# Altium footprint library BASIC Library.PCBLIB: 464 footprints (part 4 of 30)
Each footprint in its own frame and in the unit in brackets; x right, y up, seen from the top. Pads: shape width x height; smd on the part's side, far side on the other; paste and mask are expansions set on the pad; w line width, h text height; cw(c..) or ccw(c..) is an arc to the next point about the centre after c.
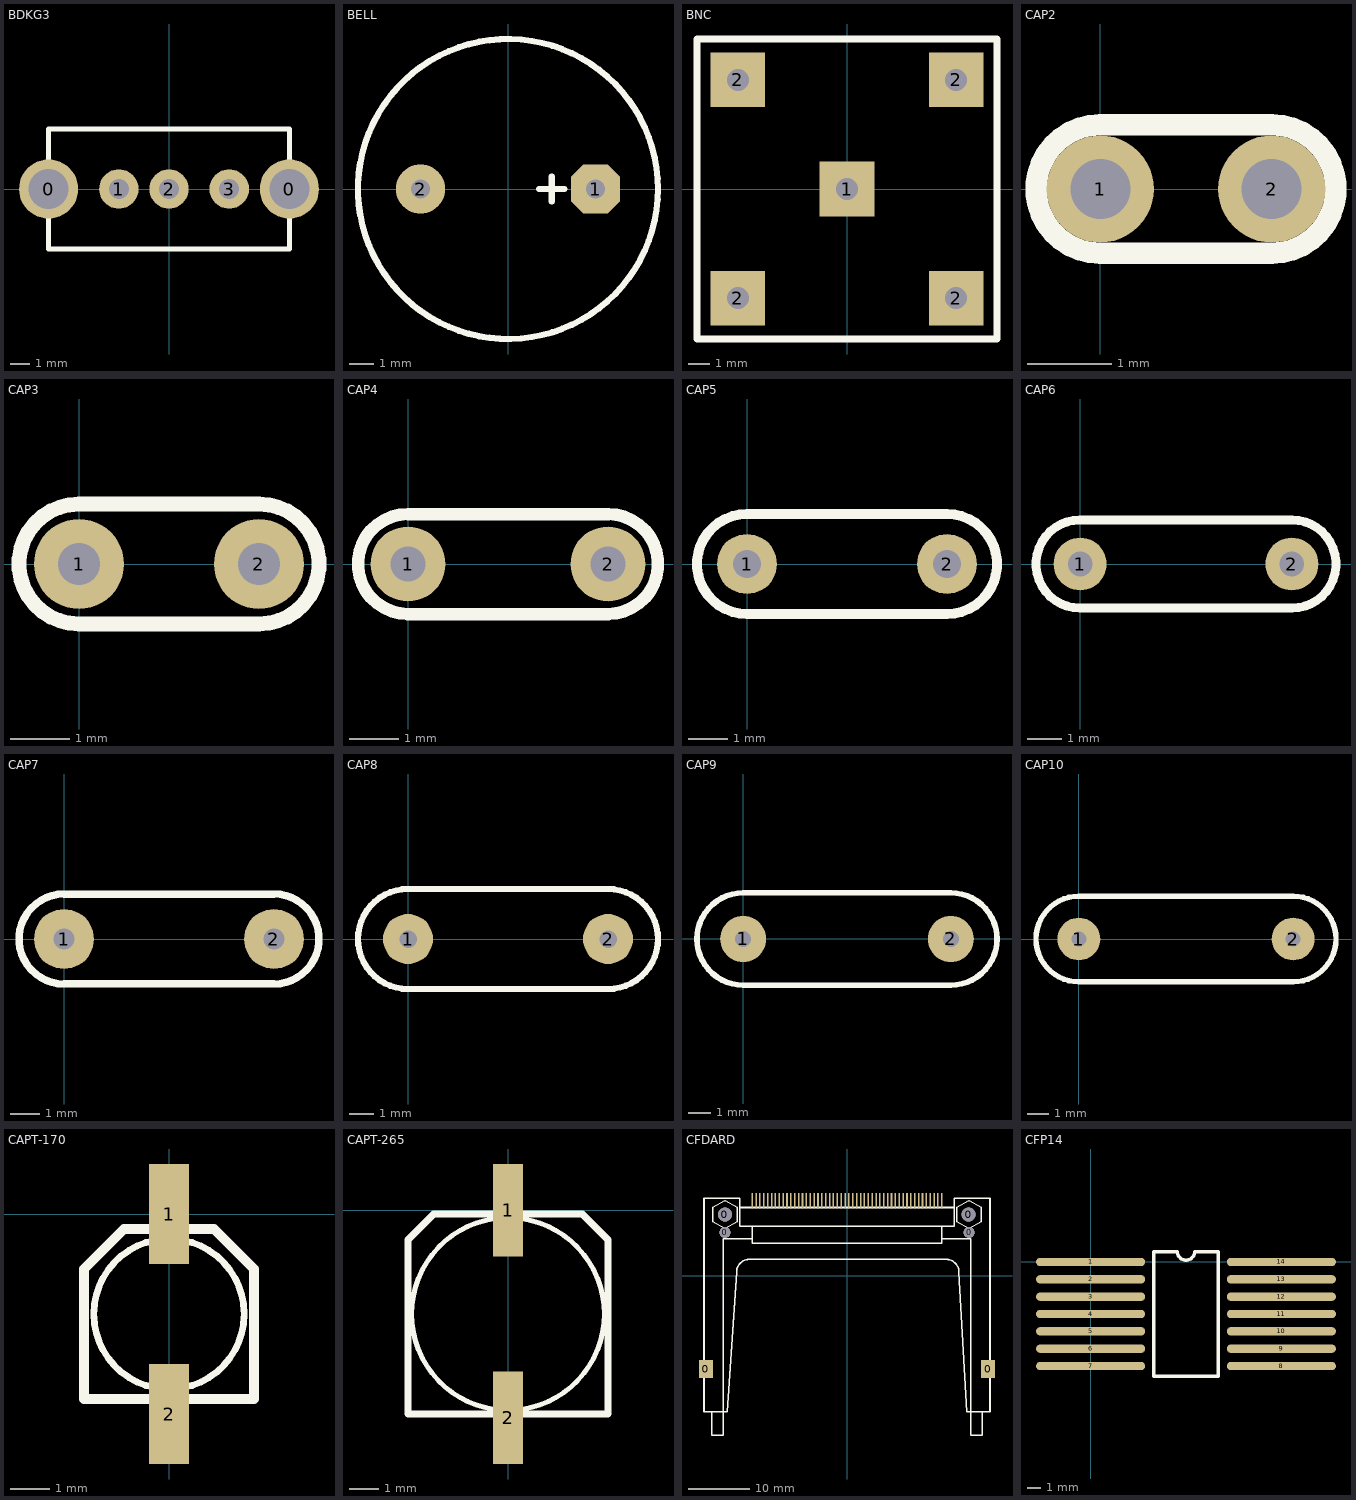
[diagram p3: the footprints below, top view; thin cyan lines are the x and y axes]

## BDKG3 [mm]
pads (5):
  round 3 hole 2.032: 0(-6.096,0) 0(6.096,0)
  round 2 hole 1.016: 1(-2.54,0) 2(0,0) 3(3.048,0)
TopOverlay:
  lines w0.254: -6.096,-3.048 -6.096,3.048 6.096,3.048 6.096,-3.048 -6.096,-3.048

## BELL [mil]
pads (2):
  oct 78.74x78.74 hole 30: 1(140,0)
  round 78.74 hole 30: 2(-140,0)
TopOverlay:
  circle w10: c0,0 r240
  lines w10: 50,0 90,0 ; 70,-20 70,20

## BNC [mil]
pads (5):
  rect 100x100 hole 40: 1(0,0) 2(-200,-200) 2(-200,200) 2(200,-200) 2(200,200)
TopOverlay:
  lines w12: -275,-275 -275,275 275,275 275,-275 -275,-275

## CAP2 [mil]
pads (2):
  round 50 hole 28: 1(0,0) 2(80,0)
TopOverlay:
  lines w10: 0,-30 cw(c0,0) 0,30 80,30 cw(c80,0) 80,-30 0,-30

## CAP3 [mil]
pads (2):
  round 60 hole 28: 1(0,0) 2(120,0)
TopOverlay:
  lines w10: 0,-40 cw(c0,0) 0,40 120,40 cw(c120,0) 120,-40 0,-40

## CAP4 [mil]
pads (2):
  round 60 hole 28: 1(0,0) 2(160,0)
TopOverlay:
  lines w10: 0,-40 cw(c0,0) 0,40 160,40 cw(c160,0) 160,-40 0,-40

## CAP5 [mil]
pads (2):
  round 60 hole 28: 1(0,0) 2(200,0)
TopOverlay:
  lines w10: 0,-50 cw(c0,0) 0,50 200,50 cw(c200,0) 200,-50 0,-50

## CAP6 [mil]
pads (2):
  round 60 hole 28: 1(0,0) 2(240,0)
TopOverlay:
  lines w10: 0,-50 cw(c0,0) 0,50 240,50 cw(c240,0) 240,-50 0,-50

## CAP7 [mil]
pads (2):
  round 80 hole 28: 1(0,0) 2(280,0)
TopOverlay:
  lines w10: 0,-60 cw(c0,0) 0,60 280,60 cw(c280,0) 280,-60 0,-60

## CAP8 [mil]
pads (2):
  round 80 hole 28: 1(0,0) 2(320,0)
TopOverlay:
  lines w10: 0,-80 cw(c0,0) 0,80 320,80 cw(c320,0) 320,-80 0,-80

## CAP9 [mil]
pads (2):
  round 80 hole 28: 1(0,0) 2(360,0)
TopOverlay:
  lines w10: 0,-80 cw(c0,0) 0,80 360,80 cw(c360,0) 360,-80 0,-80

## CAP10 [mil]
pads (2):
  round 80 hole 28: 1(0,0) 2(400,0)
TopOverlay:
  lines w10: 0,-80 cw(c0,0) 0,80 400,80 cw(c400,0) 400,-80 0,-80

## CAPT-170 [mil]
pads (2):
  rect 40x100 smd: 1(0,0) 2(0,-200)
TopOverlay:
  circle w6.69: c0,-100 r75.17
  lines w10: -85,-185 -85,-55 -45,-15 45,-15 85,-55 85,-185 -85,-185

## CAPT-265 [mil]
pads (2):
  rect 40x125 smd: 1(0,0) 2(0,-280)
TopOverlay:
  circle w6.69: c0,-140 r130
  lines w10: -135,-275 135,-275 135,-40 100,-5 -100,-5 -135,-40 -135,-275

## CFDARD [mil]
pads (56):
  rect 90x115 smd: 0(-907.5,-602.5) 0(907.5,-602.5)
  round 70 hole 70: 0(-785,277.5) 0(785,277.5)
  round 90 hole 90: 0(-785,392.5) 0(782.5,392.5)
  rect 10x100 smd: 1(-610,482.5) 2(-585.1,482.5) 3(-560.2,482.5) 4(-535.3,482.5) 5(-510.4,482.5) 6(-485.5,482.5) 7(-460.6,482.5) 8(-435.7,482.5) 9(-410.8,482.5) 10(-385.9,482.5) 11(-361,482.5) 12(-336.1,482.5) 13(-311.2,482.5) 14(-286.3,482.5) 15(-261.4,482.5) 16(-236.5,482.5) 17(-211.6,482.5) 18(-186.7,482.5) 19(-161.8,482.5) 20(-136.9,482.5) 21(-112,482.5) 22(-87.1,482.5) 23(-62.2,482.5) 24(-37.3,482.5) 25(-12.4,482.5) 26(12.5,482.5) 27(37.4,482.5) 28(62.3,482.5) 29(87.2,482.5) 30(112.1,482.5) 31(137,482.5) 32(161.9,482.5) 33(186.8,482.5) 34(211.7,482.5) 35(236.6,482.5) 36(261.5,482.5) 37(286.4,482.5) 38(311.3,482.5) 39(336.2,482.5) 40(361.1,482.5) 41(386,482.5) 42(410.9,482.5) 43(435.8,482.5) 44(460.7,482.5) 45(485.6,482.5) 46(510.5,482.5) 47(535.4,482.5) 48(560.3,482.5) 49(585.2,482.5) 50(610.1,482.5)
TopOverlay:
  lines w10: -870,-877.5 -870,-1027.5 -795,-1027.5 -795,-877.5 ; -610,237.5 -795,237.5 -795,-877.5 ; -610,317.5 -610,207.5 610,207.5 610,317.5 ; 610,237.5 795,237.5 795,-877.5 ; 870,-877.5 870,-1027.5 795,-1027.5 795,-877.5 ; -795,-877.5 -920,-877.5 -920,497.5 -690,497.5 -690,437.5 ; -795,-877.5 -770,-877.5 -710.12,22.5 cw(c-628.73,22.5) -630.06,103.88 639.94,103.88 cw(c638.61,22.5) 720,22.5 770,-877.5 795,-877.5 ; -690,437.5 690,437.5 ; -690,437.5 -690,317.5 690,317.5 690,437.5 ; 690,437.5 690,497.5 920,497.5 920,-877.5 795,-877.5 ; -865,347.5 -785,302.5 -705,347.5 -705,437.5 -785,482.5 -865,437.5 -865,347.5 ; 705,347.5 705,437.5 785,482.5 865,437.5 865,347.5 785,302.5 705,347.5

## CFP14 [mil]
pads (14):
  oval 315x24 smd: 1(0,0) 2(0,-50) 3(0,-100) 4(0,-150) 5(0,-200) 6(0,-250) 7(0,-300) 8(550,-300) 9(550,-250) 10(550,-200) 11(550,-150) 12(550,-100) 13(550,-50) 14(550,0)
TopOverlay:
  lines w10: 182,-330 368,-330 368,30 300,30 cw(c275,30) 250,30 182,30 182,-330